# EAGLE library part POWER_POWER_SCHALTER4 (library WurzPower)
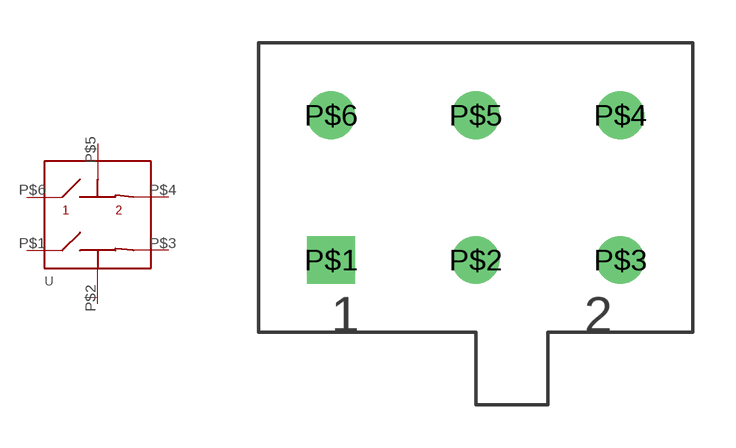
[diagram p1: symbol with the pads of POWER_POWER_SCHALTER4; footprint POWER_POWER_SCHALTER4]

Designator prefix -

## POWER_POWER_SCHALTER4  [POWER_POWER_SCHALTER4]
P$1  P$1
P$2  P$2
P$3  P$3
P$4  P$4
P$5  P$5
P$6  P$6

## Footprint POWER_POWER_SCHALTER4 (pad centres in mm)
drill 0.305 pad 1.676 square: P$1 -5.08,-2.54
drill 0.305 pad 1.676: P$2 0,-2.54; P$3 5.08,-2.54; P$4 5.08,2.54; P$5 0,2.54; P$6 -5.08,2.54